# Altium schematic symbol library SCH_AtomIC.SchLib: 1 symbol
Pins are listed as number, name and electrical type; pins without a type are passive.

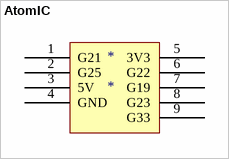
[diagram p0: symbol AtomIC]

## AtomIC
designator *
footprint SPGA48x11
pins: 1 G21, 2 G25, 3 5V, 4 GND, 5 3V3, 6 G22, 7 G19, 8 G23, 9 G33